# EAGLE library part XCC2652R1FRGZR (library CharIoT)
Comms Chip
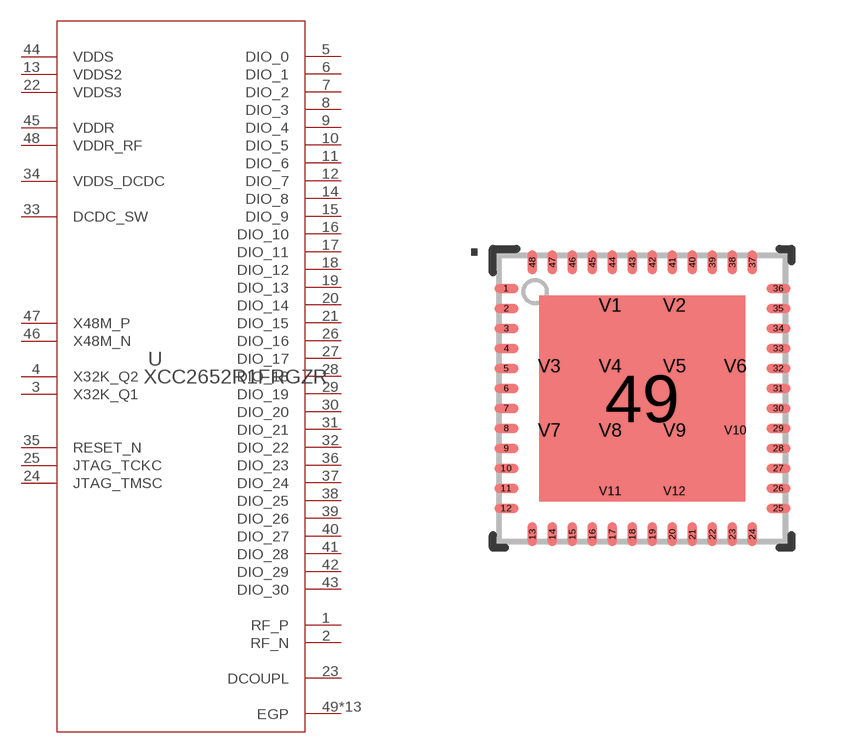
[diagram p5: symbol with the pads of RGZ0048A; footprint RGZ0048A]

Designator prefix -

## XCC2652R1FRGZR  [RGZ0048A]
1  RF_P
2  RF_N
3  X32K_Q1
4  X32K_Q2
5  DIO_0
6  DIO_1
7  DIO_2
8  DIO_3
9  DIO_4
10  DIO_5
11  DIO_6
12  DIO_7
13  VDDS2  pwr
14  DIO_8
15  DIO_9
16  DIO_10
17  DIO_11
18  DIO_12
19  DIO_13
20  DIO_14
21  DIO_15
22  VDDS3  pwr
23  DCOUPL  pwr
24  JTAG_TMSC
25  JTAG_TCKC
26  DIO_16
27  DIO_17
28  DIO_18
29  DIO_19
30  DIO_20
31  DIO_21
32  DIO_22
33  DCDC_SW  pwr
34  VDDS_DCDC  pwr
35  RESET_N  in
36  DIO_23
37  DIO_24
38  DIO_25
39  DIO_26
40  DIO_27
41  DIO_28
42  DIO_29
43  DIO_30
44  VDDS  pwr
45  VDDR  pwr
46  X48M_N
47  X48M_P
48  VDDR_RF  pwr
49  EGP  pwr
V1  EGP  pwr
V2  EGP  pwr
V3  EGP  pwr
V4  EGP  pwr
V5  EGP  pwr
V6  EGP  pwr
V7  EGP  pwr
V8  EGP  pwr
V9  EGP  pwr
V10  EGP  pwr
V11  EGP  pwr
V12  EGP  pwr

## Footprint RGZ0048A (pad centres in mm)
smd 0.6 x 0.24: 1 -3.4,2.75; 2 -3.4,2.25; 3 -3.4,1.75; 4 -3.4,1.25; 5 -3.4,0.75; 6 -3.4,0.25; 7 -3.4,-0.25; 8 -3.4,-0.75; 9 -3.4,-1.25; 10 -3.4,-1.75; 11 -3.4,-2.25; 12 -3.4,-2.75; 25 3.4,-2.75; 26 3.4,-2.25; 27 3.4,-1.75; 28 3.4,-1.25; 29 3.4,-0.75; 30 3.4,-0.25; 31 3.4,0.25; 32 3.4,0.75; 33 3.4,1.25; 34 3.4,1.75; 35 3.4,2.25; 36 3.4,2.75
smd 0.24 x 0.6: 13 -2.75,-3.4; 14 -2.25,-3.4; 15 -1.75,-3.4; 16 -1.25,-3.4; 17 -0.75,-3.4; 18 -0.25,-3.4; 19 0.25,-3.4; 20 0.75,-3.4; 21 1.25,-3.4; 22 1.75,-3.4; 23 2.25,-3.4; 24 2.75,-3.4; 37 2.75,3.4; 38 2.25,3.4; 39 1.75,3.4; 40 1.25,3.4; 41 0.75,3.4; 42 0.25,3.4; 43 -0.25,3.4; 44 -0.75,3.4; 45 -1.25,3.4; 46 -1.75,3.4; 47 -2.25,3.4; 48 -2.75,3.4
smd 5.15 x 5.15: 49 0,0
smd 0.5 x 0.5: V1 -0.803,2.325; V2 0.803,2.325; V3 -2.325,0.803; V4 -0.803,0.803; V5 0.803,0.803; V6 2.325,0.803; V7 -2.325,-0.803; V8 -0.803,-0.803; V9 0.803,-0.803; V10 2.325,-0.803; V11 -0.803,-2.325; V12 0.803,-2.325